# EAGLE library part SK-3296S-01-L1 (library SK-3296S-01-L1)
Toggle Switches SMD RoHS Source: Datasheet <https://datasheet.lcsc.com/szlcsc/XKB-SK-3296S-01-L1_C319020.pdf>
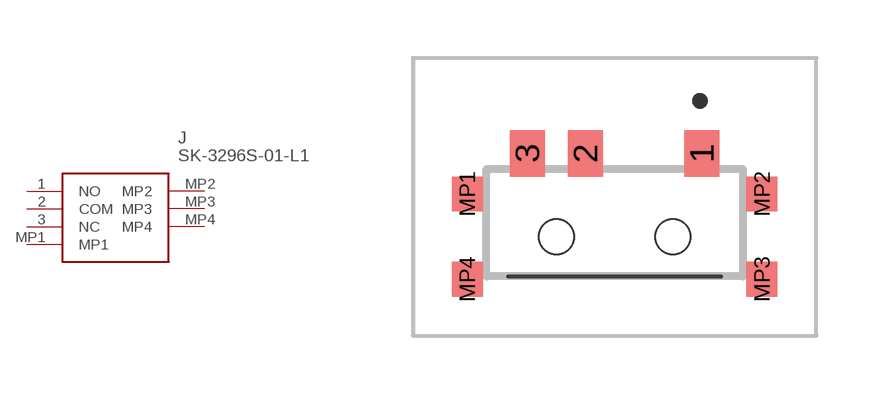
[diagram p0: symbol with the pads of SK3296S01L1; footprint SK3296S01L1]

Designator prefix J

## SK-3296S-01-L1 (Description: Toggle Switches SMD RoHS; Height: 1.4mm; Manufacturer_Name: XKB Connectivity; Manufacturer_Part_Number: SK-3296S-01-L1)  [SK3296S01L1]
1  NO
2  COM
3  NC  nc
MP1  MP1
MP2  MP2
MP3  MP3
MP4  MP4

## Footprint SK3296S01L1 (pad centres in mm)
SK-3296S-01-L1-1
smd 0.9 x 1.2: 1 2.25,0.9; 2 -0.75,0.9; 3 -2.25,0.9
smd 0.8 x 0.9: MP1 -3.8,-0.15; MP2 3.8,-0.15; MP3 3.8,-2.35; MP4 -3.8,-2.35
hole 0.9 at -1.5,-1.25
hole 0.9 at 1.5,-1.25